# EAGLE library part 3WLED (library Ledpart)
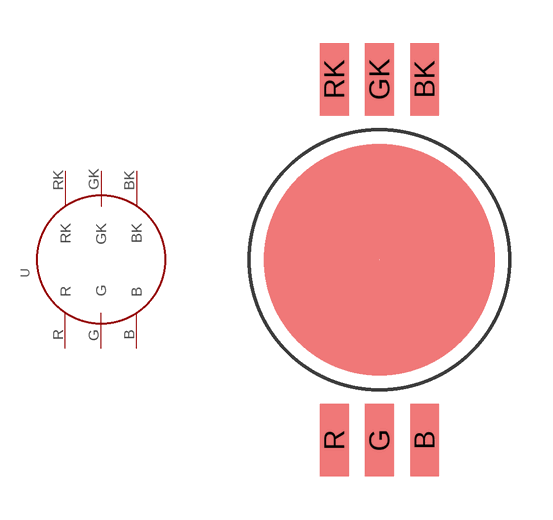
[diagram p0: symbol with the pads of 3WRGB; footprint 3WRGB]

Designator prefix -

## 3WLED  [3WRGB]
B  B
BK  BK
G  G
GK  GK
R  R
RK  RK

## Footprint 3WRGB (pad centres in mm)
smd 1 x 2.5: B 1.562,-6.25; BK 1.562,6.25; G 0,-6.25; GK 0,6.25; R -1.562,-6.25; RK -1.562,6.25